# Altium footprint library Keebs.PcbLib: 219 footprints (part 1 of 14)
Each footprint in its own frame and in the unit in brackets; x right, y up, seen from the top. Pads: shape width x height; smd on the part's side, far side on the other; paste and mask are expansions set on the pad; w line width, h text height; cw(c..) or ccw(c..) is an arc to the next point about the centre after c.
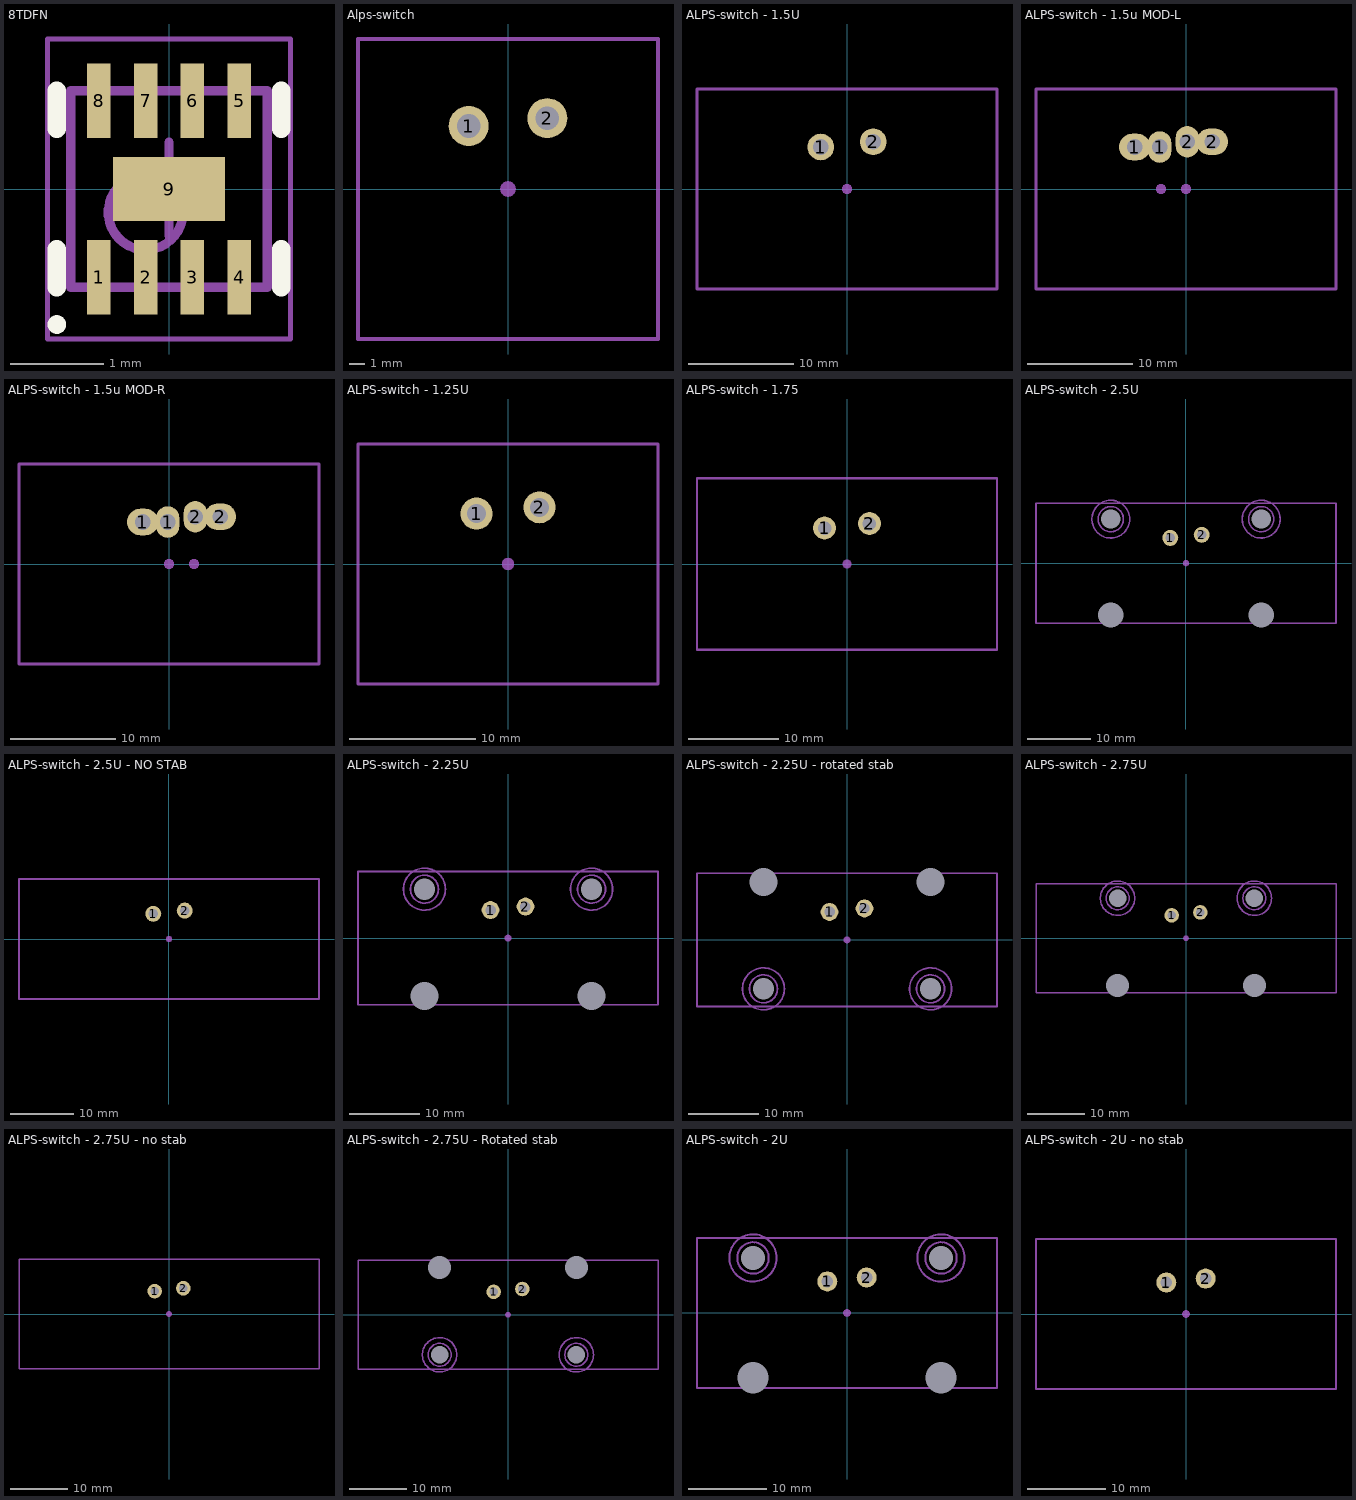
[diagram p0: the footprints below, top view; thin cyan lines are the x and y axes]

## 8TDFN [mm] "Generated for the MAX17048G+T10"
height 0.8
pads (9):
  rect 0.25x0.8 smd: 1(-0.75,-0.945) 2(-0.25,-0.945) 3(0.25,-0.945) 4(0.75,-0.945) 5(0.75,0.945) 6(0.25,0.945) 7(-0.25,0.945) 8(-0.75,0.945)
  rect 1.2x0.69 smd: 9(0,0)
Top Overlay:
  circle w0.1: c-1.2,-1.45 r0.05
  lines w0.2: -1.2,-1.05 -1.2,-0.645 ; -1.2,0.645 -1.2,1.05 ; 1.2,-1.05 1.2,-0.645 ; 1.2,0.645 1.2,1.05
Mechanical 13:
  circle w0.1: c-0.25,-0.25 r0.4
  lines w0.1: -1.05,-1.05 1.05,-1.05 1.05,1.05 -1.05,1.05 -1.05,-1.05
  text ".Designator" at 0.711,0.051 h0.3
Mechanical 15:
  lines w0.05: -1.3,-1.605 1.3,-1.605 1.3,1.605 -1.3,1.605 -1.3,-1.605
  lines w0.1: -0.5,0 0.5,0 ; 0,-0.5 0,0.5
3D body "8TDFN.step": height 0.8, standoff 0, extent -1.05,-1.1 1.05,1.1

## Alps-switch [mm]
pads (3):
  round 2.54 hole 1.5 mask-0.5: 1(-2.5,4) 2(2.5,4.5)
  round 1 on Mech13: ""(0,0)
Mechanical 13:
  lines w0.254: -9.525,-9.525 -9.525,9.525 9.525,9.525 9.525,-9.525 -9.525,-9.525
  text ".Designator" at -3.575,-3.7 h0.7

## ALPS-switch - 1.5U [mm]
pads (3):
  round 2.54 hole 1.5 mask-0.5: 1(-2.5,4) 2(2.5,4.5)
  round 1 on Mech13: ""(0,0)
Mechanical 13:
  lines w0.254: -14.287,-9.525 14.287,-9.525 14.287,9.525 -14.287,9.525 -14.287,-9.525
  text ".Designator" at -3.825,-3.375 h0.7

## ALPS-switch - 1.5u MOD-L [mm]
pads (6):
  oval 3x2.54 hole 1.5 mask-0.7: 1(-4.881,4) 2(2.5,4.5)
  oval 2.2x3 hole 1.5 mask-0.7: 1(-2.5,4) 2(0.119,4.5)
  round 1 on Mech13: ""(-2.381,0) ""(0,0)
Mechanical 13:
  lines w0.254: -14.287,-9.525 -14.287,9.525 14.287,9.525 14.287,-9.525 -14.287,-9.525
  text ".Designator" at 2.9,2.625 h0.7

## ALPS-switch - 1.5u MOD-R [mm]
pads (6):
  oval 3x2.54 hole 1.5 mask-0.7: 1(-2.5,4) 2(4.881,4.5)
  oval 2.2x3 hole 1.5 mask-0.7: 1(-0.119,4) 2(2.5,4.5)
  round 1 on Mech13: ""(0,0) ""(2.381,0)
Mechanical 13:
  lines w0.254: -14.287,-9.525 -14.287,9.525 14.287,9.525 14.287,-9.525 -14.287,-9.525
  text ".Designator" at -10.675,-5.325 h0.7

## ALPS-switch - 1.25U [mm]
pads (3):
  round 2.54 hole 1.5 mask-0.5: 1(-2.5,4) 2(2.5,4.5)
  round 1 on Mech13: ""(0,0)
Mechanical 13:
  lines w0.254: -11.906,-9.525 11.906,-9.525 11.906,9.525 -11.906,9.525 -11.906,-9.525
  text ".Designator" at -3.425,-3.425 h0.7

## ALPS-switch - 1.75 [mm]
pads (3):
  round 2.54 hole 1.5 mask-0.5: 1(-2.5,4) 2(2.5,4.5)
  round 1 on Mech13: ""(0,0)
Mechanical 13:
  lines w0.254: -16.669,-9.525 -16.669,9.525 16.669,9.525 16.669,-9.525 -16.669,-9.525
  text ".Designator" at -3.825,-3.375 h0.7

## ALPS-switch - 2.5U [mil]
pads (7):
  round 100 hole 59.06 mask-19.68: 1(-98.43,157.48) 2(98.43,177.17)
  round 60 hole 157.48 unplated: ""(-470,-325) ""(470,-325)
  round 60 hole 120 unplated: ""(-470,275) ""(470,275)
  round 39.37 on Mech13: ""(0,0)
Mechanical 13:
  lines w10: -937.48,-375 -937.48,375 937.48,375 937.5,-375 -937.48,-375
  text ".Designator" at -150.59,-132.87 h27.56
Mechanical 15:
  circle w10: c470,275 r78.74
  circle w10: c470,275 r118.11
  circle w10: c-470,275 r78.74
  circle w10: c-470,275 r118.11

## ALPS-switch - 2.5U - NO STAB [mm]
pads (3):
  round 2.54 hole 1.5 mask-0.5: 1(-2.5,4) 2(2.5,4.5)
  round 1 on Mech13: ""(0,0)
Mechanical 13:
  lines w0.254: -23.812,-9.525 -23.812,9.525 23.812,9.525 23.812,-9.525 -23.812,-9.525
  text ".Designator" at -3.825,-3.375 h0.7

## ALPS-switch - 2.25U [mil]
pads (7):
  round 100 hole 59.06 mask-19.68: 1(-98.43,157.48) 2(98.43,177.17)
  round 60 hole 157.48 unplated: ""(-470,-325) ""(470,-325)
  round 60 hole 120 unplated: ""(-470,275) ""(470,275)
  round 39.37 on Mech13: ""(0,0)
Mechanical 13:
  lines w10: -843.75,-375 -843.75,375 843.75,375 843.75,-375 -843.75,-375
  text ".Designator" at -150.59,-132.87 h27.56
Mechanical 15:
  circle w10: c470,275 r78.74
  circle w10: c470,275 r118.11
  circle w10: c-470,275 r78.74
  circle w10: c-470,275 r118.11

## ALPS-switch - 2.25U - rotated stab [mil]
pads (7):
  round 100 hole 59.06 mask-19.68: 1(-98.43,157.48) 2(98.43,177.17)
  round 60 hole 120 unplated: ""(-470,-275) ""(470,-275)
  round 60 hole 157.48 unplated: ""(-470,325) ""(470,325)
  round 39.37 on Mech13: ""(0,0)
Mechanical 13:
  lines w10: -843.75,-375 843.75,-375 843.75,375 -843.75,375 -843.75,-375
  text ".Designator" at -150.59,-132.87 h27.56
Mechanical 15:
  circle w10: c-470,-275 r118.11
  circle w10: c-470,-275 r78.74
  circle w10: c470,-275 r118.11
  circle w10: c470,-275 r78.74

## ALPS-switch - 2.75U [mil]
pads (7):
  round 100 hole 59.06 mask-19.68: 1(-98.43,157.48) 2(98.43,177.17)
  round 60 hole 157.48 unplated: ""(-470,-325) ""(470,-325)
  round 60 hole 120 unplated: ""(-470,275) ""(470,275)
  round 39.37 on Mech13: ""(0,0)
Mechanical 13:
  lines w10: -1031.25,-375 1031.25,-375 1031.25,375 -1031.25,375 -1031.25,-375
  text ".Designator" at -150.59,-132.87 h27.56
Mechanical 15:
  circle w10: c-470,275 r118.11
  circle w10: c-470,275 r78.74
  circle w10: c470,275 r118.11
  circle w10: c470,275 r78.74

## ALPS-switch - 2.75U - no stab [mm]
pads (3):
  round 2.54 hole 1.5 mask-0.5: 1(-2.5,4) 2(2.5,4.5)
  round 1 on Mech13: ""(0,0)
Mechanical 13:
  lines w0.254: -26.194,-9.525 -26.194,9.525 26.194,9.525 26.194,-9.525 -26.194,-9.525
  text ".Designator" at -3.825,-3.375 h0.7

## ALPS-switch - 2.75U - Rotated stab [mil]
pads (7):
  round 100 hole 59.06 mask-19.68: 1(-98.43,157.48) 2(98.43,177.17)
  round 60 hole 120 unplated: ""(-470,-275) ""(470,-275)
  round 60 hole 157.48 unplated: ""(-470,325) ""(470,325)
  round 39.37 on Mech13: ""(0,0)
Mechanical 13:
  lines w10: -1031.25,-375 1031.25,-375 1031.25,375 -1031.25,375 -1031.25,-375
  text ".Designator" at -150.59,-132.87 h27.56
Mechanical 15:
  circle w10: c470,-275 r118.11
  circle w10: c470,-275 r78.74
  circle w10: c-470,-275 r118.11
  circle w10: c-470,-275 r78.74

## ALPS-switch - 2U [mil]
pads (7):
  round 100 hole 59.06 mask-19.68: 1(-98.43,157.48) 2(98.43,177.17)
  round 60 hole 157.48 unplated: ""(-470,-325) ""(470,-325)
  round 60 hole 120 unplated: ""(-470,275) ""(470,275)
  round 39.37 on Mech13: ""(0,0)
Mechanical 13:
  lines w10: -750,-375 750,-375 750,375 -750,375 -750,-375
  text ".Designator" at -150.59,-132.87 h27.56
Mechanical 15:
  circle w10: c-470,275 r118.11
  circle w10: c-470,275 r78.74
  circle w10: c470,275 r118.11
  circle w10: c470,275 r78.74

## ALPS-switch - 2U - no stab [mm]
pads (3):
  round 2.54 hole 1.5 mask-0.5: 1(-2.5,4) 2(2.5,4.5)
  round 1 on Mech13: ""(0,0)
Mechanical 13:
  lines w0.254: -19.05,-9.525 -19.05,9.525 19.05,9.525 19.05,-9.525 -19.05,-9.525
  text ".Designator" at -3.825,-3.375 h0.7